# EAGLE library part LY3100ALH (library 0SBLib)
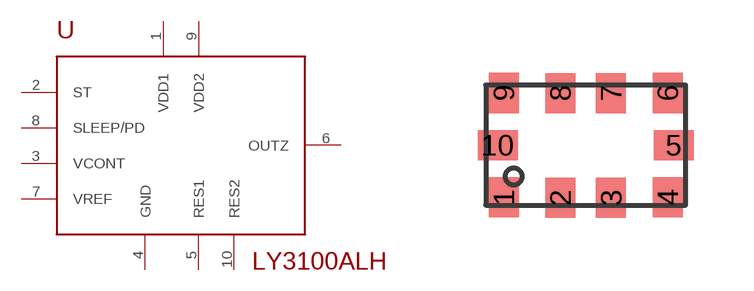
[diagram p3: symbol with the pads of LGA10; footprint LGA10]

Designator prefix -

## LY3100ALH  [LGA10]
1  VDD1
2  ST
3  VCONT
4  GND
5  RES1
6  OUTZ
7  VREF
8  SLEEP/PD
9  VDD2
10  RES2

## Footprint LGA10 (pad centres in mm)
smd 0.75 x 1: 1 -2.05,-1.3; 2 -0.635,-1.32; 3 0.635,-1.32; 4 2.05,-1.3; 6 2.05,1.3; 7 0.635,1.295; 8 -0.635,1.295; 9 -2.05,1.3
smd 1 x 0.75: 5 2.2,0; 10 -2.2,0